# EAGLE library part 87340-08_S (library untitled)
RECEPTACAL
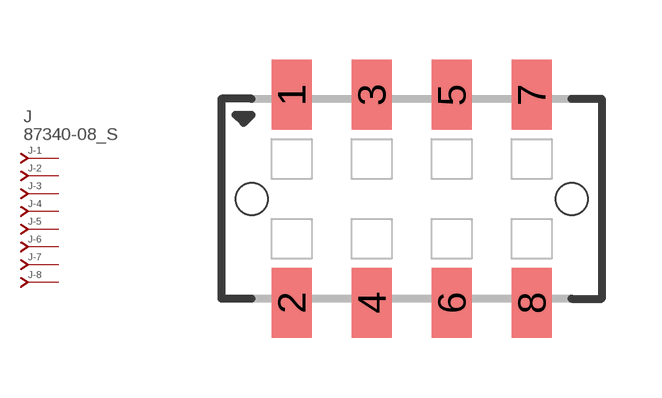
[diagram p328: symbol with the pads of 87340-08; footprint 87340-08]

Designator prefix J; gates -1=J-NV -2=J-N -3=J-N -4=J-N -5=J-N -6=J-N -7=J-N -8=J-N

## 87340-08_S  [87340-08]
1  -1:J  pas
2  -2:J  pas
3  -3:J  pas
4  -4:J  pas
5  -5:J  pas
6  -6:J  pas
7  -7:J  pas
8  -8:J  pas

## Footprint 87340-08 (pad centres in mm)
RECEPTACAL SMD Dual Row, Vertical, Low Profile
smd 1 x 1.75: 1 -3,2.6; 2 -3,-2.6; 3 -1,2.6; 4 -1,-2.6; 5 1,2.6; 6 1,-2.6; 7 3,2.6; 8 3,-2.6
hole 0.8 at -4,0
hole 0.8 at 4,0